# EAGLE library part 7SEG_3_0.25 (library 7seg-3-0.25)
0.25 inch 3-digit 7-segment display without dot
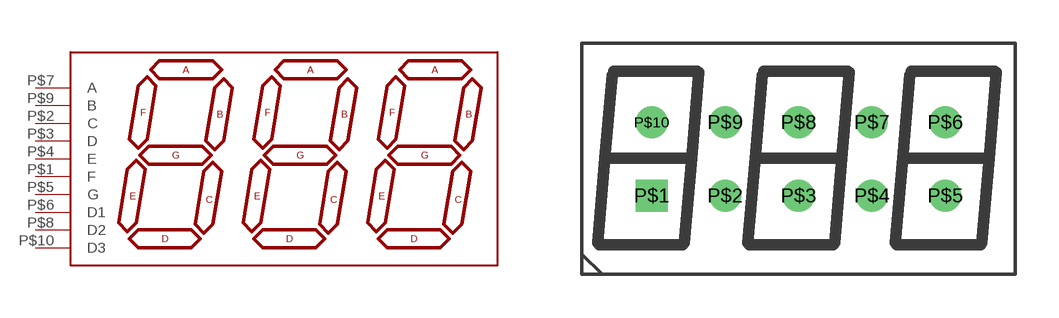
[diagram p0: symbol with the pads of 7SEG_15X8; footprint 7SEG_15X8]

Designator prefix DN

## 7SEG_3_0.25  [7SEG_15X8]
P$1  F
P$2  C
P$3  D
P$4  E
P$5  G
P$6  D1
P$7  A
P$8  D2
P$9  B
P$10  D3

## Footprint 7SEG_15X8 (pad centres in mm)
drill 0.6 square: P$1 -5.08,-1.27
drill 0.6: P$2 -2.54,-1.27; P$3 0,-1.27; P$4 2.54,-1.27; P$5 5.08,-1.27; P$6 5.08,1.27; P$7 2.54,1.27; P$8 0,1.27; P$9 -2.54,1.27; P$10 -5.08,1.27